# Altium footprint library QFN50P400X400X100_HS-25L.PcbLib: 1 footprints
Each footprint in its own frame and in the unit in brackets; x right, y up, seen from the top. Pads: shape width x height; smd on the part's side, far side on the other; paste and mask are expansions set on the pad; w line width, h text height; cw(c..) or ccw(c..) is an arc to the next point about the centre after c.
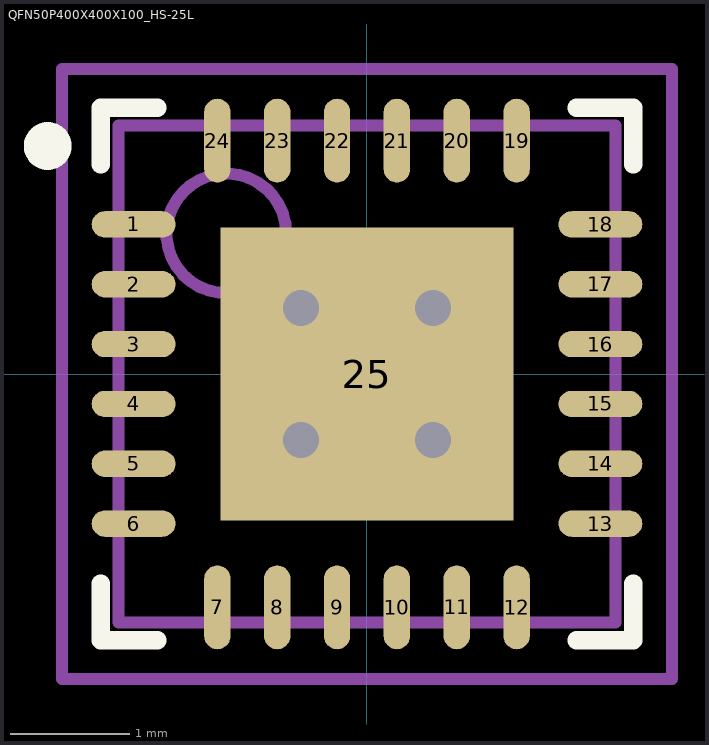
[diagram p0: the footprint, top view; thin cyan lines are the x and y axes]

## QFN50P400X400X100_HS-25L [mm] "QFN, 24-Leads, Body 4.00x4.00mm, Pitch 0.50mm, Thermal Pad 2.45x2.45mm, IPC High Density"
height 1
pads (25):
  oval 0.7x0.22 smd: 1(-1.95,1.25) 2(-1.95,0.75) 3(-1.95,0.25) 4(-1.95,-0.25) 5(-1.95,-0.75) 6(-1.95,-1.25) 13(1.95,-1.25) 14(1.95,-0.75) 15(1.95,-0.25) 16(1.95,0.25) 17(1.95,0.75) 18(1.95,1.25)
  oval 0.22x0.7 smd: 7(-1.25,-1.95) 8(-0.75,-1.95) 9(-0.25,-1.95) 10(0.25,-1.95) 11(0.75,-1.95) 12(1.25,-1.95) 19(1.25,1.95) 20(0.75,1.95) 21(0.25,1.95) 22(-0.25,1.95) 23(-0.75,1.95) 24(-1.25,1.95)
  rect 2.45x2.45 smd: 25(0,0)
via 0.55,-0.55 diameter 0.6 hole 0.3
via -0.55,-0.55 diameter 0.6 hole 0.3
via 0.55,0.55 diameter 0.6 hole 0.3
via -0.55,0.55 diameter 0.6 hole 0.3
Top Overlay:
  circle w0.2: c-2.667,1.905 r0.1
  lines w0.152: -2.225,-1.75 -2.225,-2.225 -1.75,-2.225 ; -2.225,1.75 -2.225,2.225 -1.75,2.225 ; 1.75,-2.225 2.225,-2.225 2.225,-1.75 ; 1.75,2.225 2.225,2.225 2.225,1.75
Mechanical 13:
  circle w0.1: c-1.175,1.175 r0.5
  lines w0.1: -2.075,-2.075 2.075,-2.075 2.075,2.075 -2.075,2.075 -2.075,-2.075
Mechanical 15:
  lines w0.1: -0.5,0 0.5,0 ; 0,-0.5 0,0.5 ; -2.55,-2.55 2.55,-2.55 2.55,2.55 -2.55,2.55 -2.55,-2.55
3D body: height 1, standoff 0, extent -2.05,-2.05 2.05,2.05